# EAGLE library part ADC_ADS8332IBPWR (library GTOR - Active Components)
2.7V-to-5.5V, 16-Bit, 500kSPS Low-Power Serial ADC With 8-Ch Multiplexer and Breakout Source: Datasheet <http://www.ti.com/lit/gpn/ads8332>
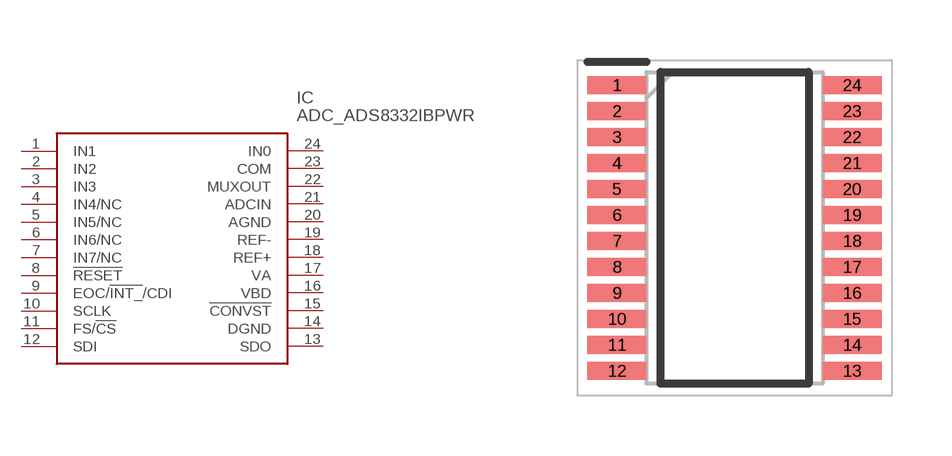
[diagram p11: symbol with the pads of SOP65P640X120-24N; footprint SOP65P640X120-24N]

Designator prefix IC

## ADC_ADS8332IBPWR (ARROW_PART_NUMBER: ADS8332IBPWR; ARROW_PRICE-STOCK: https://www.arrow.com/en/products/ads8332ibpwr/texas-instruments; DESCRIPTION: 2.7V-to-5.5V, 16-Bit, 500kSPS Low-Power Serial ADC With 8-Ch Multiplexer and Breakout; HEIGHT: 1.2mm; MANUFACTURER_NAME: Texas Instruments; MANUFACTURER_PART_NUMBER: ADS8332IBPWR; MOUSER_PART_NUMBER: 595-ADS8332IBPWR; MOUSER_PRICE-STOCK: https://www.mouser.co.uk/ProductDetail/Texas-Instruments/ADS8332IBPWR?qs=O1HRStiETCid%2FAX4psuRow%3D%3D)  [SOP65P640X120-24N]
1  IN1
2  IN2
3  IN3
4  IN4/NC
5  IN5/NC
6  IN6/NC
7  IN7/NC
8  !RESET
9  EOC/!INT_!/CDI
10  SCLK
11  FS/!CS
12  SDI
13  SDO
14  DGND
15  !CONVST
16  VBD
17  VA
18  REF+
19  REF-
20  AGND
21  ADCIN
22  MUXOUT
23  COM
24  IN0

## Footprint SOP65P640X120-24N (pad centres in mm)
PW0024A_2
smd 1.475 x 0.45: 1 -2.938,3.575; 2 -2.938,2.925; 3 -2.938,2.275; 4 -2.938,1.625; 5 -2.938,0.975; 6 -2.938,0.325; 7 -2.938,-0.325; 8 -2.938,-0.975; 9 -2.938,-1.625; 10 -2.938,-2.275; 11 -2.938,-2.925; 12 -2.938,-3.575; 13 2.938,-3.575; 14 2.938,-2.925; 15 2.938,-2.275; 16 2.938,-1.625; 17 2.938,-0.975; 18 2.938,-0.325; 19 2.938,0.325; 20 2.938,0.975; 21 2.938,1.625; 22 2.938,2.275; 23 2.938,2.925; 24 2.938,3.575